# Altium schematic symbol library SCH - POWER - SWITCHMODE - TI TPS62A01ADRLR.SchLib: 1 symbol
Pins are listed as number, name and electrical type; pins without a type are passive.

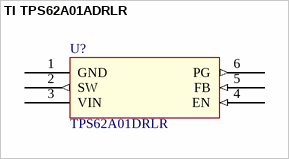
[diagram p0: symbol TI TPS62A01ADRLR]

## TI TPS62A01ADRLR
designator U?, comment TPS62A01DRLR
2.5-V to 5.5-V input, 1-A high-efficiency step-down converter with forced PWM in SOT-563 package; Mfr_Name: Texas Instruments; Copyright: Copyright (C) 2022 Ultra Librarian. All rights reserved.; Manufacturer_Part_Number: TPS62A01DRLR; RefDes: RefDes; Type: DEV; ComponentLink1Description: Datasheet; ComponentLink1URL: https://www.ti.com/document-viewer/TPS62A01A/datasheet/GUID-583A9EFF-0876-4B6A-9171-86BE16EA9829#GUID-016A0F07-62BF-4703-9B43-9200616E2C9F
footprint TI SOT-563 DRL (SOT DRL, 6-Leads, Body 1.10x1.60mm, Pitch 0.5mm, IPC Medium Density)
pins: 1 GND, 2 SW (out), 3 VIN (power), 4 EN (in), 5 FB (in), 6 PG (out)